# Altium footprint library 2.06-ETSSOP贴片封装.PcbLib: 4 footprints
Each footprint in its own frame and in the unit in brackets; x right, y up, seen from the top. Pads: shape width x height; smd on the part's side, far side on the other; paste and mask are expansions set on the pad; w line width, h text height; cw(c..) or ccw(c..) is an arc to the next point about the centre after c.
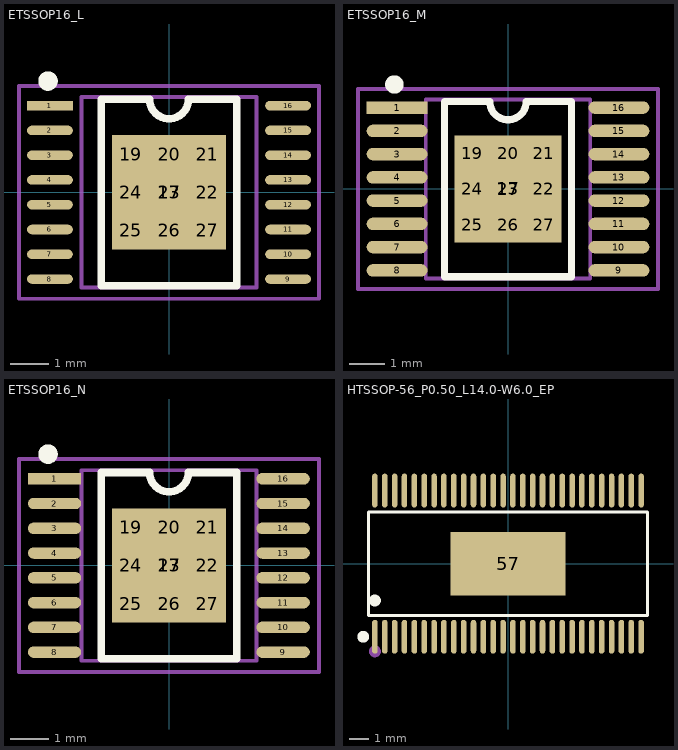
[diagram p0: the footprints below, top view; thin cyan lines are the x and y axes]

## ETSSOP16_L [mm] "5*6.4*1.2mm（长宽高）"
pads (26):
  rect 1.2x0.25 smd: 1(-3.125,2.275)
  oval 1.2x0.25 smd: 2(-3.125,1.625) 3(-3.125,0.975) 4(-3.125,0.325) 5(-3.125,-0.325) 6(-3.125,-0.975) 7(-3.125,-1.625) 8(-3.125,-2.275) 9(3.125,-2.275) 10(3.125,-1.625) 11(3.125,-0.975) 12(3.125,-0.325) 13(3.125,0.325) 14(3.125,0.975) 15(3.125,1.625) 16(3.125,2.275)
  rect 3x3 smd paste-3: 17(0,0)
  rect 0.75x0.75 on Top Paste: 19(-1,1) 20(0,1) 21(1,1) 22(1,0) 23(0,0) 24(-1,0) 25(-1,-1) 26(0,-1) 27(1,-1)
Top Overlay:
  circle w0.254: c-3.175,2.921 r0.13
  lines w0.2: -1.778,-2.45 -1.778,2.44 -0.508,2.44 ccw(c0,2.44) 0.508,2.44 1.778,2.44 1.778,-2.45 -1.778,-2.45
Mechanical 13:
  lines w0.1: -2.3,-2.5 -2.3,2.5 2.3,2.5 2.3,-2.5 -2.3,-2.5
Mechanical 15:
  circle w0.05: c0,0 r0.35
  lines w0.05: -0.5,0 0.5,0 ; 0,-0.5 0,0.5
  lines w0.1: -3.937,-2.794 3.937,-2.794 3.937,2.794 -3.937,2.794 -3.937,-2.794
3D body: height 1.03, standoff -0.02, extent -3.202,-2.5 3.202,2.5

## ETSSOP16_M [mm] "5*6.4*1.2mm（长宽高）"
pads (26):
  rect 1.7x0.35 smd: 1(-3.1,2.275)
  oval 1.7x0.35 smd: 2(-3.1,1.625) 3(-3.1,0.975) 4(-3.1,0.325) 5(-3.1,-0.325) 6(-3.1,-0.975) 7(-3.1,-1.625) 8(-3.1,-2.275) 9(3.1,-2.275) 10(3.1,-1.625) 11(3.1,-0.975) 12(3.1,-0.325) 13(3.1,0.325) 14(3.1,0.975) 15(3.1,1.625) 16(3.1,2.275)
  rect 3x3 smd paste-3: 17(0,0)
  rect 0.75x0.75 on Top Paste: 19(-1,1) 20(0,1) 21(1,1) 22(1,0) 23(0,0) 24(-1,0) 25(-1,-1) 26(0,-1) 27(1,-1)
Top Overlay:
  circle w0.254: c-3.175,2.921 r0.13
  lines w0.2: -1.778,-2.45 -1.778,2.44 -0.508,2.44 ccw(c0,2.44) 0.508,2.44 1.778,2.44 1.778,-2.45 -1.778,-2.45
Mechanical 13:
  lines w0.1: -2.3,-2.5 2.3,-2.5 2.3,2.5 -2.3,2.5 -2.3,-2.5
Mechanical 15:
  circle w0.05: c0,0 r0.35
  lines w0.05: -0.5,0 0.5,0 ; 0,-0.5 0,0.5
  lines w0.1: -4.191,-2.794 4.191,-2.794 4.191,2.794 -4.191,2.794 -4.191,-2.794
3D body: height 1.03, standoff -0.02, extent -3.202,-2.5 3.202,2.5

## ETSSOP16_N [mm] "5*6.4*1.2mm（长宽高）联系卖家 免费查找封装"
pads (26):
  rect 1.4x0.3 smd: 1(-3.004,2.275)
  oval 1.4x0.3 smd: 2(-3.004,1.625) 3(-3.004,0.975) 4(-3.004,0.325) 5(-3.004,-0.325) 6(-3.004,-0.975) 7(-3.004,-1.625) 8(-3.004,-2.275) 9(2.996,-2.275) 10(2.996,-1.625) 11(2.996,-0.975) 12(2.996,-0.325) 13(2.996,0.325) 14(2.996,0.975) 15(2.996,1.625) 16(2.996,2.275)
  rect 3x3 smd paste-3: 17(0,0)
  rect 0.75x0.75 on Top Paste: 19(-1,1) 20(0,1) 21(1,1) 22(1,0) 23(0,0) 24(-1,0) 25(-1,-1) 26(0,-1) 27(1,-1)
Top Overlay:
  circle w0.254: c-3.175,2.921 r0.13
  lines w0.2: -1.778,-2.45 1.778,-2.45 1.778,2.44 0.508,2.44 cw(c0,2.44) -0.508,2.44 -1.778,2.44 -1.778,-2.45
Mechanical 13:
  lines w0.1: -2.3,-2.5 2.3,-2.5 2.3,2.5 -2.3,2.5 -2.3,-2.5
Mechanical 15:
  circle w0.05: c0,0 r0.35
  lines w0.05: -0.5,0 0.5,0 ; 0,-0.5 0,0.5
  lines w0.1: -3.937,-2.794 -3.937,2.794 3.937,2.794 3.937,-2.794 -3.937,-2.794
3D body: height 1.03, standoff -0.02, extent -3.202,-2.5 3.202,2.5

## HTSSOP-56_P0.50_L14.0-W6.0_EP [mm] "联系卖家 免费查找封装"
pads (57):
  oval 0.28x1.715 smd: 1(-6.75,-3.707) 2(-6.25,-3.707) 3(-5.75,-3.707) 4(-5.25,-3.707) 5(-4.75,-3.707) 6(-4.25,-3.707) 7(-3.75,-3.707) 8(-3.25,-3.707) 9(-2.75,-3.707) 10(-2.25,-3.707) 11(-1.75,-3.707) 12(-1.25,-3.707) 13(-0.75,-3.707) 14(-0.25,-3.707) 15(0.25,-3.707) 16(0.75,-3.707) 17(1.25,-3.707) 18(1.75,-3.707) 19(2.25,-3.707) 20(2.75,-3.707) 21(3.25,-3.707) 22(3.75,-3.707) 23(4.25,-3.707) 24(4.75,-3.707) 25(5.25,-3.707) 26(5.75,-3.707) 27(6.25,-3.707) 28(6.75,-3.707) 29(6.75,3.708) 30(6.25,3.708) 31(5.75,3.708) 32(5.25,3.708) 33(4.75,3.708) 34(4.25,3.708) 35(3.75,3.708) 36(3.25,3.708) 37(2.75,3.708) 38(2.25,3.708) 39(1.75,3.708) 40(1.25,3.708) 41(0.75,3.708) 42(0.25,3.708) 43(-0.25,3.708) 44(-0.75,3.708) 45(-1.25,3.708) 46(-1.75,3.708) 47(-2.25,3.708) 48(-2.75,3.708) 49(-3.25,3.708) 50(-3.75,3.708) 51(-4.25,3.708) 52(-4.75,3.708) 53(-5.25,3.708) 54(-5.75,3.708) 55(-6.25,3.708) 56(-6.75,3.708)
  rect 5.825x3.235 smd: 57(0,0)
Top Overlay:
  circle w0.3: c-6.75,-1.869 r0.15
  circle w0.3: c-7.342,-3.708 r0.15
  lines w0.152: -7.076,-2.621 -7.076,2.622 7.076,2.622 7.076,-2.621 -7.076,-2.621
Mechanical 15:
  circle w0.3: c-6.75,-4.45 r0.15
3D body: height 1, standoff 0.1, extent -7,-2.6 7,2.6